# Altium integrated library TI Logic Counter.IntLib: 650 symbols (part 1 of 14)
Pins are listed as number, name and electrical type; pins without a type are passive.

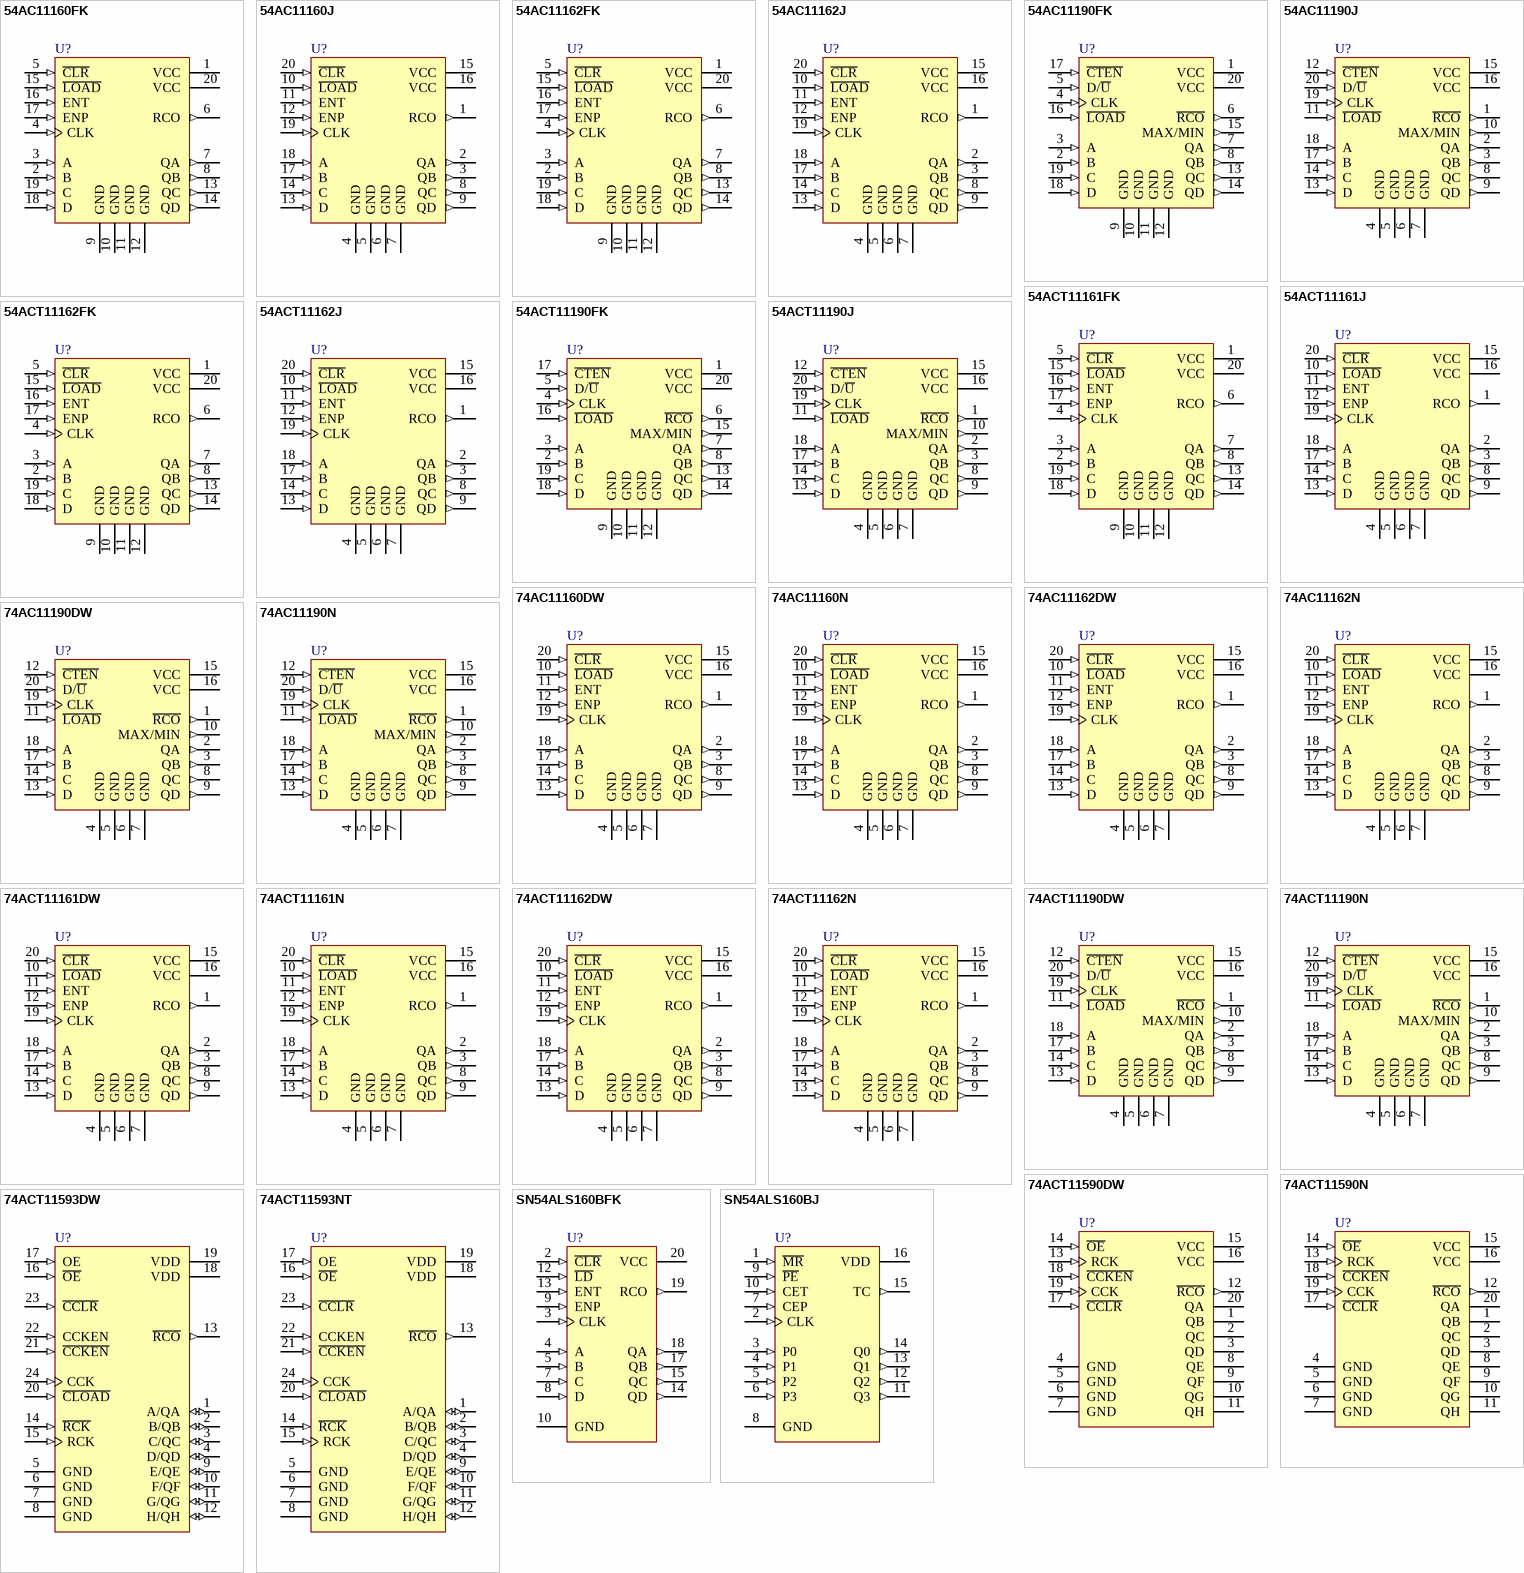
[diagram p0: symbols 54AC11160FK to SN54ALS160BJ]

## 54AC11160FK
designator U?
Synchronous 4-Bit Decade Counter; Published: 8-Jun-2000; LatestRevisionDate: 17-Jul-2002; LatestRevisionNote: Re-released for DXP Platform.; DatasheetVersion: Mar-1990; PackageVersion: 1998; PackageReference: FK020; Publisher: Altium Limited; PackageDescription: Leadless Chip Carrier; 20 Terminals; Body 8.9 x 8.9 mm; ComponentLink1Description: Manufacturer Link; ComponentLink1URL: http://www.ti.com/
footprint FK020 (Leadless Chip Carrier; 20 Terminals; Body 8.9 x 8.9 mm)
signal-integrity model 54AC11160FK
pins: 1 VCC (power), 2 B (in), 3 A (in), 4 CLK (in), 5 ~{CLR} (in), 6 RCO (out), 7 QA (out), 8 QB (out), 9 GND (power), 10 GND (power), 11 GND (power), 12 GND (power), 13 QC (out), 14 QD (out), 15 ~{LOAD} (in), 16 ENT (in), 17 ENP (in), 18 D (in), 19 C (in), 20 VCC (power)

## 54AC11160J
designator U?
Synchronous 4-Bit Decade Counter; Published: 8-Jun-2000; LatestRevisionDate: 04-Mar-2005; LatestRevisionNote: Stylized 3D Model Added.; DatasheetVersion: Mar-1990; PackageVersion: Jun-1999; PackageReference: J020D; Publisher: Altium Limited; PackageDescription: DIP; 20 Leads; Row Spacing 7.62 mm; Pitch 2.54 mm; ComponentLink1Description: Manufacturer Link; ComponentLink1URL: http://www.ti.com/
footprint J020D (DIP; 20 Leads; Row Spacing 7.62 mm; Pitch 2.54 mm)
3D model J020 (DIP; 20 Leads; Row Spacing 7.62 mm; Pitch 2.54 mm)
signal-integrity model 54AC11160J
pins: 1 RCO (out), 2 QA (out), 3 QB (out), 4 GND (power), 5 GND (power), 6 GND (power), 7 GND (power), 8 QC (out), 9 QD (out), 10 ~{LOAD} (in), 11 ENT (in), 12 ENP (in), 13 D (in), 14 C (in), 15 VCC (power), 16 VCC (power), 17 B (in), 18 A (in), 19 CLK (in), 20 ~{CLR} (in)

## 54AC11162FK
designator U?
Synchronous 4-Bit Decade Counter; Published: 8-Jun-2000; LatestRevisionDate: 17-Jul-2002; LatestRevisionNote: Re-released for DXP Platform.; DatasheetVersion: Jan-1990; PackageVersion: 1998; PackageReference: FK020; Publisher: Altium Limited; PackageDescription: Leadless Chip Carrier; 20 Terminals; Body 8.9 x 8.9 mm; ComponentLink1Description: Manufacturer Link; ComponentLink1URL: http://www.ti.com/
footprint FK020 (Leadless Chip Carrier; 20 Terminals; Body 8.9 x 8.9 mm)
signal-integrity model 54AC11162FK
pins: 1 VCC (power), 2 B (in), 3 A (in), 4 CLK (in), 5 ~{CLR} (in), 6 RCO (out), 7 QA (out), 8 QB (out), 9 GND (power), 10 GND (power), 11 GND (power), 12 GND (power), 13 QC (out), 14 QD (out), 15 ~{LOAD} (in), 16 ENT (in), 17 ENP (in), 18 D (in), 19 C (in), 20 VCC (power)

## 54AC11162J
designator U?
Synchronous 4-Bit Decade Counter; Published: 8-Jun-2000; LatestRevisionDate: 04-Mar-2005; LatestRevisionNote: Stylized 3D Model Added.; DatasheetVersion: Jan-1990; PackageVersion: Jun-1999; PackageReference: J020D; Publisher: Altium Limited; PackageDescription: DIP; 20 Leads; Row Spacing 7.62 mm; Pitch 2.54 mm; ComponentLink1Description: Manufacturer Link; ComponentLink1URL: http://www.ti.com/
footprint J020D (DIP; 20 Leads; Row Spacing 7.62 mm; Pitch 2.54 mm)
3D model J020 (DIP; 20 Leads; Row Spacing 7.62 mm; Pitch 2.54 mm)
signal-integrity model 54AC11162J
pins: 1 RCO (out), 2 QA (out), 3 QB (out), 4 GND (power), 5 GND (power), 6 GND (power), 7 GND (power), 8 QC (out), 9 QD (out), 10 ~{LOAD} (in), 11 ENT (in), 12 ENP (in), 13 D (in), 14 C (in), 15 VCC (power), 16 VCC (power), 17 B (in), 18 A (in), 19 CLK (in), 20 ~{CLR} (in)

## 54AC11190FK
designator U?
Synchronous 4-Bit Up/Down Decade Counter; Published: 8-Jun-2000; LatestRevisionDate: 17-Jul-2002; LatestRevisionNote: Re-released for DXP Platform.; DatasheetVersion: Mar-1990; PackageVersion: 1998; PackageReference: FK020; Publisher: Altium Limited; PackageDescription: Leadless Chip Carrier; 20 Terminals; Body 8.9 x 8.9 mm; ComponentLink1Description: Manufacturer Link; ComponentLink1URL: http://www.ti.com/
footprint FK020 (Leadless Chip Carrier; 20 Terminals; Body 8.9 x 8.9 mm)
signal-integrity model 54AC11190FK
pins: 1 VCC (power), 2 B (in), 3 A (in), 4 CLK (in), 5 D/~{U} (in), 6 ~{RCO} (out), 7 QA (out), 8 QB (out), 9 GND (power), 10 GND (power), 11 GND (power), 12 GND (power), 13 QC (out), 14 QD (out), 15 MAX/MIN (out), 16 ~{LOAD} (in), 17 ~{CTEN} (in), 18 D (in), 19 C (in), 20 VCC (power)

## 54AC11190J
designator U?
Synchronous 4-Bit Up/Down Decade Counter; Published: 8-Jun-2000; LatestRevisionDate: 04-Mar-2005; LatestRevisionNote: Stylized 3D Model Added.; DatasheetVersion: Mar-1990; PackageVersion: Jun-1999; PackageReference: J020D; Publisher: Altium Limited; PackageDescription: DIP; 20 Leads; Row Spacing 7.62 mm; Pitch 2.54 mm; ComponentLink1Description: Manufacturer Link; ComponentLink1URL: http://www.ti.com/
footprint J020D (DIP; 20 Leads; Row Spacing 7.62 mm; Pitch 2.54 mm)
3D model J020 (DIP; 20 Leads; Row Spacing 7.62 mm; Pitch 2.54 mm)
signal-integrity model 54AC11190J
pins: 1 ~{RCO} (out), 2 QA (out), 3 QB (out), 4 GND (power), 5 GND (power), 6 GND (power), 7 GND (power), 8 QC (out), 9 QD (out), 10 MAX/MIN (out), 11 ~{LOAD} (in), 12 ~{CTEN} (in), 13 D (in), 14 C (in), 15 VCC (power), 16 VCC (power), 17 B (in), 18 A (in), 19 CLK (in), 20 D/~{U} (in)

## 54ACT11161FK
designator U?
Synchronous 4-Bit Binary Counter; Published: 8-Jun-2000; LatestRevisionDate: 17-Jul-2002; LatestRevisionNote: Re-released for DXP Platform.; DatasheetVersion: Mar-1990; PackageVersion: 1998; PackageReference: FK020; Publisher: Altium Limited; PackageDescription: Leadless Chip Carrier; 20 Terminals; Body 8.9 x 8.9 mm; ComponentLink1Description: Manufacturer Link; ComponentLink1URL: http://www.ti.com/
footprint FK020 (Leadless Chip Carrier; 20 Terminals; Body 8.9 x 8.9 mm)
signal-integrity model 54ACT11161FK
pins: 1 VCC (power), 2 B (in), 3 A (in), 4 CLK (in), 5 ~{CLR} (in), 6 RCO (out), 7 QA (out), 8 QB (out), 9 GND (power), 10 GND (power), 11 GND (power), 12 GND (power), 13 QC (out), 14 QD (out), 15 ~{LOAD} (in), 16 ENT (in), 17 ENP (in), 18 D (in), 19 C (in), 20 VCC (power)

## 54ACT11161J
designator U?
Synchronous 4-Bit Binary Counter; Published: 8-Jun-2000; LatestRevisionDate: 04-Mar-2005; LatestRevisionNote: Stylized 3D Model Added.; DatasheetVersion: Mar-1990; PackageVersion: Jun-1999; PackageReference: J020D; Publisher: Altium Limited; PackageDescription: DIP; 20 Leads; Row Spacing 7.62 mm; Pitch 2.54 mm; ComponentLink1Description: Manufacturer Link; ComponentLink1URL: http://www.ti.com/
footprint J020D (DIP; 20 Leads; Row Spacing 7.62 mm; Pitch 2.54 mm)
3D model J020 (DIP; 20 Leads; Row Spacing 7.62 mm; Pitch 2.54 mm)
signal-integrity model 54ACT11161J
pins: 1 RCO (out), 2 QA (out), 3 QB (out), 4 GND (power), 5 GND (power), 6 GND (power), 7 GND (power), 8 QC (out), 9 QD (out), 10 ~{LOAD} (in), 11 ENT (in), 12 ENP (in), 13 D (in), 14 C (in), 15 VCC (power), 16 VCC (power), 17 B (in), 18 A (in), 19 CLK (in), 20 ~{CLR} (in)

## 54ACT11162FK
designator U?
Synchronous 4-Bit Decade Counter; Published: 8-Jun-2000; LatestRevisionDate: 17-Jul-2002; LatestRevisionNote: Re-released for DXP Platform.; DatasheetVersion: Mar-1990; PackageVersion: 1998; PackageReference: FK020; Publisher: Altium Limited; PackageDescription: Leadless Chip Carrier; 20 Terminals; Body 8.9 x 8.9 mm; ComponentLink1Description: Manufacturer Link; ComponentLink1URL: http://www.ti.com/
footprint FK020 (Leadless Chip Carrier; 20 Terminals; Body 8.9 x 8.9 mm)
signal-integrity model 54ACT11162FK
pins: 1 VCC (power), 2 B (in), 3 A (in), 4 CLK (in), 5 ~{CLR} (in), 6 RCO (out), 7 QA (out), 8 QB (out), 9 GND (power), 10 GND (power), 11 GND (power), 12 GND (power), 13 QC (out), 14 QD (out), 15 ~{LOAD} (in), 16 ENT (in), 17 ENP (in), 18 D (in), 19 C (in), 20 VCC (power)

## 54ACT11162J
designator U?
Synchronous 4-Bit Decade Counter; Published: 8-Jun-2000; LatestRevisionDate: 04-Mar-2005; LatestRevisionNote: Stylized 3D Model Added.; DatasheetVersion: Mar-1990; PackageVersion: Jun-1999; PackageReference: J020D; Publisher: Altium Limited; PackageDescription: DIP; 20 Leads; Row Spacing 7.62 mm; Pitch 2.54 mm; ComponentLink1Description: Manufacturer Link; ComponentLink1URL: http://www.ti.com/
footprint J020D (DIP; 20 Leads; Row Spacing 7.62 mm; Pitch 2.54 mm)
3D model J020 (DIP; 20 Leads; Row Spacing 7.62 mm; Pitch 2.54 mm)
signal-integrity model 54ACT11162J
pins: 1 RCO (out), 2 QA (out), 3 QB (out), 4 GND (power), 5 GND (power), 6 GND (power), 7 GND (power), 8 QC (out), 9 QD (out), 10 ~{LOAD} (in), 11 ENT (in), 12 ENP (in), 13 D (in), 14 C (in), 15 VCC (power), 16 VCC (power), 17 B (in), 18 A (in), 19 CLK (in), 20 ~{CLR} (in)

## 54ACT11190FK
designator U?
Synchronous 4-Bit Up/Down Decade Counter; Published: 8-Jun-2000; LatestRevisionDate: 17-Jul-2002; LatestRevisionNote: Re-released for DXP Platform.; DatasheetVersion: Mar-1990; PackageVersion: 1998; PackageReference: FK020; Publisher: Altium Limited; PackageDescription: Leadless Chip Carrier; 20 Terminals; Body 8.9 x 8.9 mm; ComponentLink1Description: Manufacturer Link; ComponentLink1URL: http://www.ti.com/
footprint FK020 (Leadless Chip Carrier; 20 Terminals; Body 8.9 x 8.9 mm)
signal-integrity model 54ACT11190FK
pins: 1 VCC (power), 2 B (in), 3 A (in), 4 CLK (in), 5 D/~{U} (in), 6 ~{RCO} (out), 7 QA (out), 8 QB (out), 9 GND (power), 10 GND (power), 11 GND (power), 12 GND (power), 13 QC (out), 14 QD (out), 15 MAX/MIN (out), 16 ~{LOAD} (in), 17 ~{CTEN} (in), 18 D (in), 19 C (in), 20 VCC (power)

## 54ACT11190J
designator U?
Synchronous 4-Bit Up/Down Decade Counter; Published: 8-Jun-2000; LatestRevisionDate: 04-Mar-2005; LatestRevisionNote: Stylized 3D Model Added.; DatasheetVersion: Mar-1990; PackageVersion: Jun-1999; PackageReference: J020D; Publisher: Altium Limited; PackageDescription: DIP; 20 Leads; Row Spacing 7.62 mm; Pitch 2.54 mm; ComponentLink1Description: Manufacturer Link; ComponentLink1URL: http://www.ti.com/
footprint J020D (DIP; 20 Leads; Row Spacing 7.62 mm; Pitch 2.54 mm)
3D model J020 (DIP; 20 Leads; Row Spacing 7.62 mm; Pitch 2.54 mm)
signal-integrity model 54ACT11190J
pins: 1 ~{RCO} (out), 2 QA (out), 3 QB (out), 4 GND (power), 5 GND (power), 6 GND (power), 7 GND (power), 8 QC (out), 9 QD (out), 10 MAX/MIN (out), 11 ~{LOAD} (in), 12 ~{CTEN} (in), 13 D (in), 14 C (in), 15 VCC (power), 16 VCC (power), 17 B (in), 18 A (in), 19 CLK (in), 20 D/~{U} (in)

## 74AC11160DW
designator U?
Synchronous 4-Bit Decade Counter; Published: 8-Jun-2000; LatestRevisionDate: 13-Apr-2006; LatestRevisionNote: IPC-7351 Footprint Added.; DatasheetVersion: Mar-1990; PackageVersion: Mar-2000; PackageReference: DW020; Publisher: Altium Limited; PackageDescription: 20-Pin Plastic Small Outline Integrated Circuit 1.27 mm Pitch; Code_JEDEC: MS-013; Code_IPC: SOIC127P1030-20; ComponentLink1Description: Manufacturer Link; ComponentLink1URL: http://www.ti.com/
footprint DW020_N (SOIC, 20-Leads, Body 12.8x7.5mm, Pitch 1.27mm, IPC Medium Density)
footprint DW020_L (SOIC, 20-Leads, Body 12.8x7.5mm, Pitch 1.27mm, IPC High Density)
footprint DW020_M (SOIC, 20-Leads, Body 12.8x7.5mm, Pitch 1.27mm, IPC Low Density)
3D model DW020 (20-Pin Plastic Small Outline Integrated Circuit 1.27 mm Pitch)
signal-integrity model 74AC11160DW
pins: 1 RCO (out), 2 QA (out), 3 QB (out), 4 GND (power), 5 GND (power), 6 GND (power), 7 GND (power), 8 QC (out), 9 QD (out), 10 ~{LOAD} (in), 11 ENT (in), 12 ENP (in), 13 D (in), 14 C (in), 15 VCC (power), 16 VCC (power), 17 B (in), 18 A (in), 19 CLK (in), 20 ~{CLR} (in)

## 74AC11160N
designator U?
Synchronous 4-Bit Decade Counter; ComponentAvailability: Obsolete; Published: 8-Jun-2000; LatestRevisionDate: 04-Mar-2005; LatestRevisionNote: Stylized 3D Model Added.; DatasheetVersion: Apr-1993; PackageVersion: Oct-1995; PackageReference: N020; Publisher: Altium Limited; PackageDescription: DIP; 20 Leads; Row Spacing 7.62 mm; Pitch 2.54 mm; ComponentLink1Description: Manufacturer Link; ComponentLink1URL: http://www.ti.com/; ComponentLink2Description: Datasheet; ComponentLink2URL: http://www-s.ti.com/sc/ds/74ac11160.pdf
footprint N020 (DIP; 20 Leads; Row Spacing 7.62 mm; Pitch 2.54 mm)
3D model J020 (DIP; 20 Leads; Row Spacing 7.62 mm; Pitch 2.54 mm)
signal-integrity model 74AC11160N
pins: 1 RCO (out), 2 QA (out), 3 QB (out), 4 GND (power), 5 GND (power), 6 GND (power), 7 GND (power), 8 QC (out), 9 QD (out), 10 ~{LOAD} (in), 11 ENT (in), 12 ENP (in), 13 D (in), 14 C (in), 15 VCC (power), 16 VCC (power), 17 B (in), 18 A (in), 19 CLK (in), 20 ~{CLR} (in)

## 74AC11162DW
designator U?
Synchronous 4-Bit Decade Counter; ComponentAvailability: Obsolete; Published: 8-Jun-2000; LatestRevisionDate: 13-Apr-2006; LatestRevisionNote: IPC-7351 Footprint Added.; DatasheetVersion: Jan-1990; PackageVersion: Mar-2000; PackageReference: DW020; Publisher: Altium Limited; PackageDescription: 20-Pin Plastic Small Outline Integrated Circuit 1.27 mm Pitch; Code_JEDEC: MS-013; Code_IPC: SOIC127P1030-20; ComponentLink1Description: Manufacturer Link; ComponentLink1URL: http://www.ti.com/; ComponentLink2Description: Datasheet; ComponentLink2URL: http://www-s.ti.com/sc/ds/74ac11162.pdf; ComponentLink3Description: Discontinuation Notice; ComponentLink3URL: http://focus.ti.com/docs/prod/folders/print/74ac11162.html
footprint DW020_N (SOIC, 20-Leads, Body 12.8x7.5mm, Pitch 1.27mm, IPC Medium Density)
footprint DW020_L (SOIC, 20-Leads, Body 12.8x7.5mm, Pitch 1.27mm, IPC High Density)
footprint DW020_M (SOIC, 20-Leads, Body 12.8x7.5mm, Pitch 1.27mm, IPC Low Density)
3D model DW020 (20-Pin Plastic Small Outline Integrated Circuit 1.27 mm Pitch)
signal-integrity model 74AC11162DW
pins: 1 RCO (out), 2 QA (out), 3 QB (out), 4 GND (power), 5 GND (power), 6 GND (power), 7 GND (power), 8 QC (out), 9 QD (out), 10 ~{LOAD} (in), 11 ENT (in), 12 ENP (in), 13 D (in), 14 C (in), 15 VCC (power), 16 VCC (power), 17 B (in), 18 A (in), 19 CLK (in), 20 ~{CLR} (in)

## 74AC11162N
designator U?
Synchronous 4-Bit Decade Counter; ComponentAvailability: Obsolete; Published: 8-Jun-2000; LatestRevisionDate: 04-Mar-2005; LatestRevisionNote: Stylized 3D Model Added.; DatasheetVersion: Jan-1990; PackageVersion: Oct-1995; PackageReference: N020D; Publisher: Altium Limited; PackageDescription: DIP; 20 Leads; Row Spacing 7.62 mm; Pitch 2.54 mm; ComponentLink1Description: Manufacturer Link; ComponentLink1URL: http://www.ti.com/; ComponentLink2Description: Datasheet; ComponentLink2URL: http://www-s.ti.com/sc/ds/74ac11162.pdf; ComponentLink3Description: Discontinuation Notice; ComponentLink3URL: http://focus.ti.com/docs/prod/folders/print/74ac11162.html
footprint N020D (DIP; 20 Leads; Row Spacing 7.62 mm; Pitch 2.54 mm)
3D model J020 (DIP; 20 Leads; Row Spacing 7.62 mm; Pitch 2.54 mm)
signal-integrity model 74AC11162N
pins: 1 RCO (out), 2 QA (out), 3 QB (out), 4 GND (power), 5 GND (power), 6 GND (power), 7 GND (power), 8 QC (out), 9 QD (out), 10 ~{LOAD} (in), 11 ENT (in), 12 ENP (in), 13 D (in), 14 C (in), 15 VCC (power), 16 VCC (power), 17 B (in), 18 A (in), 19 CLK (in), 20 ~{CLR} (in)

## 74AC11190DW
designator U?
Synchronous 4-Bit Up/Down Decade Counter; Published: 8-Jun-2000; LatestRevisionDate: 13-Apr-2006; LatestRevisionNote: IPC-7351 Footprint Added.; DatasheetVersion: Mar-1990; PackageVersion: Mar-2000; PackageReference: DW020; Publisher: Altium Limited; PackageDescription: 20-Pin Plastic Small Outline Integrated Circuit 1.27 mm Pitch; Code_JEDEC: MS-013; Code_IPC: SOIC127P1030-20; ComponentLink1Description: Manufacturer Link; ComponentLink1URL: http://www.ti.com/
footprint DW020_N (SOIC, 20-Leads, Body 12.8x7.5mm, Pitch 1.27mm, IPC Medium Density)
footprint DW020_L (SOIC, 20-Leads, Body 12.8x7.5mm, Pitch 1.27mm, IPC High Density)
footprint DW020_M (SOIC, 20-Leads, Body 12.8x7.5mm, Pitch 1.27mm, IPC Low Density)
3D model DW020 (20-Pin Plastic Small Outline Integrated Circuit 1.27 mm Pitch)
signal-integrity model 74AC11190DW
pins: 1 ~{RCO} (out), 2 QA (out), 3 QB (out), 4 GND (power), 5 GND (power), 6 GND (power), 7 GND (power), 8 QC (out), 9 QD (out), 10 MAX/MIN (out), 11 ~{LOAD} (in), 12 ~{CTEN} (in), 13 D (in), 14 C (in), 15 VCC (power), 16 VCC (power), 17 B (in), 18 A (in), 19 CLK (in), 20 D/~{U} (in)

## 74AC11190N
designator U?
Synchronous 4-Bit Up/Down Decade Counter; Published: 8-Jun-2000; LatestRevisionDate: 04-Mar-2005; LatestRevisionNote: Stylized 3D Model Added.; DatasheetVersion: Mar-1990; PackageVersion: Oct-1995; PackageReference: N020D; Publisher: Altium Limited; PackageDescription: DIP; 20 Leads; Row Spacing 7.62 mm; Pitch 2.54 mm; ComponentLink1Description: Manufacturer Link; ComponentLink1URL: http://www.ti.com/
footprint N020D (DIP; 20 Leads; Row Spacing 7.62 mm; Pitch 2.54 mm)
3D model J020 (DIP; 20 Leads; Row Spacing 7.62 mm; Pitch 2.54 mm)
signal-integrity model 74AC11190N
pins: 1 ~{RCO} (out), 2 QA (out), 3 QB (out), 4 GND (power), 5 GND (power), 6 GND (power), 7 GND (power), 8 QC (out), 9 QD (out), 10 MAX/MIN (out), 11 ~{LOAD} (in), 12 ~{CTEN} (in), 13 D (in), 14 C (in), 15 VCC (power), 16 VCC (power), 17 B (in), 18 A (in), 19 CLK (in), 20 D/~{U} (in)

## 74ACT11161DW
designator U?
Synchronous 4-Bit Binary Counter; Published: 8-Jun-2000; LatestRevisionDate: 13-Apr-2006; LatestRevisionNote: IPC-7351 Footprint Added.; DatasheetVersion: Mar-1990; PackageVersion: Mar-2000; PackageReference: DW020; Publisher: Altium Limited; PackageDescription: 20-Pin Plastic Small Outline Integrated Circuit 1.27 mm Pitch; Code_JEDEC: MS-013; Code_IPC: SOIC127P1030-20; ComponentLink1Description: Manufacturer Link; ComponentLink1URL: http://www.ti.com/
footprint DW020_N (SOIC, 20-Leads, Body 12.8x7.5mm, Pitch 1.27mm, IPC Medium Density)
footprint DW020_L (SOIC, 20-Leads, Body 12.8x7.5mm, Pitch 1.27mm, IPC High Density)
footprint DW020_M (SOIC, 20-Leads, Body 12.8x7.5mm, Pitch 1.27mm, IPC Low Density)
3D model DW020 (20-Pin Plastic Small Outline Integrated Circuit 1.27 mm Pitch)
signal-integrity model 74ACT11161DW
pins: 1 RCO (out), 2 QA (out), 3 QB (out), 4 GND (power), 5 GND (power), 6 GND (power), 7 GND (power), 8 QC (out), 9 QD (out), 10 ~{LOAD} (in), 11 ENT (in), 12 ENP (in), 13 D (in), 14 C (in), 15 VCC (power), 16 VCC (power), 17 B (in), 18 A (in), 19 CLK (in), 20 ~{CLR} (in)

## 74ACT11161N
designator U?
Synchronous 4-Bit Binary Counter; Published: 8-Jun-2000; LatestRevisionDate: 04-Mar-2005; LatestRevisionNote: Stylized 3D Model Added.; DatasheetVersion: Mar-1990; PackageVersion: Oct-1995; PackageReference: N020D; Publisher: Altium Limited; PackageDescription: DIP; 20 Leads; Row Spacing 7.62 mm; Pitch 2.54 mm; ComponentLink1Description: Manufacturer Link; ComponentLink1URL: http://www.ti.com/
footprint N020D (DIP; 20 Leads; Row Spacing 7.62 mm; Pitch 2.54 mm)
3D model J020 (DIP; 20 Leads; Row Spacing 7.62 mm; Pitch 2.54 mm)
signal-integrity model 74ACT11161N
pins: 1 RCO (out), 2 QA (out), 3 QB (out), 4 GND (power), 5 GND (power), 6 GND (power), 7 GND (power), 8 QC (out), 9 QD (out), 10 ~{LOAD} (in), 11 ENT (in), 12 ENP (in), 13 D (in), 14 C (in), 15 VCC (power), 16 VCC (power), 17 B (in), 18 A (in), 19 CLK (in), 20 ~{CLR} (in)

## 74ACT11162DW
designator U?
Synchronous 4-Bit Decade Counter; ComponentAvailability: Obsolete; Published: 8-Jun-2000; LatestRevisionDate: 13-Apr-2006; LatestRevisionNote: IPC-7351 Footprint Added.; DatasheetVersion: Mar-1990; PackageVersion: Mar-2000; PackageReference: DW020; Publisher: Altium Limited; PackageDescription: 20-Pin Plastic Small Outline Integrated Circuit 1.27 mm Pitch; Code_JEDEC: MS-013; Code_IPC: SOIC127P1030-20; ComponentLink1Description: Manufacturer Link; ComponentLink1URL: http://www.ti.com/; ComponentLink2Description: Discontinuation Notice; ComponentLink2URL: http://focus.ti.com/docs/prod/folders/print/74act11162.html
footprint DW020_N (SOIC, 20-Leads, Body 12.8x7.5mm, Pitch 1.27mm, IPC Medium Density)
footprint DW020_L (SOIC, 20-Leads, Body 12.8x7.5mm, Pitch 1.27mm, IPC High Density)
footprint DW020_M (SOIC, 20-Leads, Body 12.8x7.5mm, Pitch 1.27mm, IPC Low Density)
3D model DW020 (20-Pin Plastic Small Outline Integrated Circuit 1.27 mm Pitch)
signal-integrity model 74ACT11162DW
pins: 1 RCO (out), 2 QA (out), 3 QB (out), 4 GND (power), 5 GND (power), 6 GND (power), 7 GND (power), 8 QC (out), 9 QD (out), 10 ~{LOAD} (in), 11 ENT (in), 12 ENP (in), 13 D (in), 14 C (in), 15 VCC (power), 16 VCC (power), 17 B (in), 18 A (in), 19 CLK (in), 20 ~{CLR} (in)

## 74ACT11162N
designator U?
Synchronous 4-Bit Decade Counter; ComponentAvailability: Obsolete; Published: 8-Jun-2000; LatestRevisionDate: 04-Mar-2005; LatestRevisionNote: Stylized 3D Model Added.; DatasheetVersion: Mar-1990; PackageVersion: Oct-1995; PackageReference: N020D; Publisher: Altium Limited; PackageDescription: DIP; 20 Leads; Row Spacing 7.62 mm; Pitch 2.54 mm; ComponentLink1Description: Manufacturer Link; ComponentLink1URL: http://www.ti.com/; ComponentLink2Description: Discontinuation Notice; ComponentLink2URL: http://focus.ti.com/docs/prod/folders/print/74act11162.html
footprint N020D (DIP; 20 Leads; Row Spacing 7.62 mm; Pitch 2.54 mm)
3D model J020 (DIP; 20 Leads; Row Spacing 7.62 mm; Pitch 2.54 mm)
signal-integrity model 74ACT11162N
pins: 1 RCO (out), 2 QA (out), 3 QB (out), 4 GND (power), 5 GND (power), 6 GND (power), 7 GND (power), 8 QC (out), 9 QD (out), 10 ~{LOAD} (in), 11 ENT (in), 12 ENP (in), 13 D (in), 14 C (in), 15 VCC (power), 16 VCC (power), 17 B (in), 18 A (in), 19 CLK (in), 20 ~{CLR} (in)

## 74ACT11190DW
designator U?
Synchronous 4-Bit Up/Down Decade Counter; Published: 8-Jun-2000; LatestRevisionDate: 13-Apr-2006; LatestRevisionNote: IPC-7351 Footprint Added.; DatasheetVersion: Mar-1990; PackageVersion: Mar-2000; PackageReference: DW020; Publisher: Altium Limited; PackageDescription: 20-Pin Plastic Small Outline Integrated Circuit 1.27 mm Pitch; Code_JEDEC: MS-013; Code_IPC: SOIC127P1030-20; ComponentLink1Description: Manufacturer Link; ComponentLink1URL: http://www.ti.com/
footprint DW020_N (SOIC, 20-Leads, Body 12.8x7.5mm, Pitch 1.27mm, IPC Medium Density)
footprint DW020_L (SOIC, 20-Leads, Body 12.8x7.5mm, Pitch 1.27mm, IPC High Density)
footprint DW020_M (SOIC, 20-Leads, Body 12.8x7.5mm, Pitch 1.27mm, IPC Low Density)
3D model DW020 (20-Pin Plastic Small Outline Integrated Circuit 1.27 mm Pitch)
signal-integrity model 74ACT11190DW
pins: 1 ~{RCO} (out), 2 QA (out), 3 QB (out), 4 GND (power), 5 GND (power), 6 GND (power), 7 GND (power), 8 QC (out), 9 QD (out), 10 MAX/MIN (out), 11 ~{LOAD} (in), 12 ~{CTEN} (in), 13 D (in), 14 C (in), 15 VCC (power), 16 VCC (power), 17 B (in), 18 A (in), 19 CLK (in), 20 D/~{U} (in)

## 74ACT11190N
designator U?
Synchronous 4-Bit Up/Down Decade Counter; Published: 8-Jun-2000; LatestRevisionDate: 04-Mar-2005; LatestRevisionNote: Stylized 3D Model Added.; DatasheetVersion: Mar-1990; PackageVersion: Oct-1995; PackageReference: N020D; Publisher: Altium Limited; PackageDescription: DIP; 20 Leads; Row Spacing 7.62 mm; Pitch 2.54 mm; ComponentLink1Description: Manufacturer Link; ComponentLink1URL: http://www.ti.com/
footprint N020D (DIP; 20 Leads; Row Spacing 7.62 mm; Pitch 2.54 mm)
3D model J020 (DIP; 20 Leads; Row Spacing 7.62 mm; Pitch 2.54 mm)
signal-integrity model 74ACT11190N
pins: 1 ~{RCO} (out), 2 QA (out), 3 QB (out), 4 GND (power), 5 GND (power), 6 GND (power), 7 GND (power), 8 QC (out), 9 QD (out), 10 MAX/MIN (out), 11 ~{LOAD} (in), 12 ~{CTEN} (in), 13 D (in), 14 C (in), 15 VCC (power), 16 VCC (power), 17 B (in), 18 A (in), 19 CLK (in), 20 D/~{U} (in)

## 74ACT11590DW
designator U?
8-Bit Binary Counter with Registered 3-State Outputs; ComponentAvailability: Obsolete; Published: 8-Jun-2000; LatestRevisionDate: 13-Apr-2006; LatestRevisionNote: IPC-7351 Footprint Added.; DatasheetVersion: Apr-1993; PackageVersion: Mar-2000; PackageReference: DW020; Publisher: Altium Limited; PackageDescription: 20-Pin Plastic Small Outline Integrated Circuit 1.27 mm Pitch; Code_JEDEC: MS-013; Code_IPC: SOIC127P1030-20; ComponentLink1Description: Manufacturer Link; ComponentLink1URL: http://www.ti.com/; ComponentLink2Description: Datasheet; ComponentLink2URL: http://www-s.ti.com/sc/ds/74act11590.pdf
footprint DW020_N (SOIC, 20-Leads, Body 12.8x7.5mm, Pitch 1.27mm, IPC Medium Density)
footprint DW020_L (SOIC, 20-Leads, Body 12.8x7.5mm, Pitch 1.27mm, IPC High Density)
footprint DW020_M (SOIC, 20-Leads, Body 12.8x7.5mm, Pitch 1.27mm, IPC Low Density)
3D model DW020 (20-Pin Plastic Small Outline Integrated Circuit 1.27 mm Pitch)
signal-integrity model 74ACT11590DW
pins: 1 QB (hiz), 2 QC (hiz), 3 QD (hiz), 4 GND (power), 5 GND (power), 6 GND (power), 7 GND (power), 8 QE (hiz), 9 QF (hiz), 10 QG (hiz), 11 QH (hiz), 12 ~{RCO} (out), 13 RCK (in), 14 ~{OE} (in), 15 VCC (power), 16 VCC (power), 17 ~{CCLR} (in), 18 ~{CCKEN} (in), 19 CCK (in), 20 QA (hiz)

## 74ACT11590N
designator U?
8-Bit Binary Counter with Registered 3-State Outputs; ComponentAvailability: Obsolete; Published: 8-Jun-2000; LatestRevisionDate: 04-Mar-2005; LatestRevisionNote: Stylized 3D Model Added.; DatasheetVersion: Apr-1993; PackageVersion: Oct-1995; PackageReference: N020; Publisher: Altium Limited; PackageDescription: DIP; 20 Leads; Row Spacing 7.62 mm; Pitch 2.54 mm; ComponentLink1Description: Manufacturer Link; ComponentLink1URL: http://www.ti.com/; ComponentLink2Description: Datasheet; ComponentLink2URL: http://www-s.ti.com/sc/ds/74act11590.pdf
footprint N020 (DIP; 20 Leads; Row Spacing 7.62 mm; Pitch 2.54 mm)
3D model J020 (DIP; 20 Leads; Row Spacing 7.62 mm; Pitch 2.54 mm)
signal-integrity model 74ACT11590N
pins: 1 QB (hiz), 2 QC (hiz), 3 QD (hiz), 4 GND (power), 5 GND (power), 6 GND (power), 7 GND (power), 8 QE (hiz), 9 QF (hiz), 10 QG (hiz), 11 QH (hiz), 12 ~{RCO} (out), 13 RCK (in), 14 ~{OE} (in), 15 VCC (power), 16 VCC (power), 17 ~{CCLR} (in), 18 ~{CCKEN} (in), 19 CCK (in), 20 QA (hiz)

## 74ACT11593DW
designator U?
8-Bit Binary Counter with Parallel-Input Registers and 3-State Outputs; ComponentAvailability: Obsolete; Published: 8-Jun-2000; LatestRevisionDate: 13-Apr-2006; LatestRevisionNote: IPC-7351 Footprint Added.; DatasheetVersion: Apr-1993; PackageVersion: Mar-2000; PackageReference: DW024; Publisher: Altium Limited; PackageDescription: 24-Pin Plastic Small Outline Integrated Circuit 1.27 mm Pitch; Code_JEDEC: MS-013; ComponentLink1Description: Manufacturer Link; ComponentLink1URL: http://www.ti.com/; ComponentLink2Description: Datasheet; ComponentLink2URL: http://www-s.ti.com/sc/ds/74act11593.pdf
footprint DW024_N (SOIC, 24-Leads, Body 15.4x7.5mm, Pitch 1.27mm, IPC Medium Density)
footprint DW024_L (SOIC, 24-Leads, Body 15.4x7.5mm, Pitch 1.27mm, IPC High Density)
footprint DW024_M (SOIC, 24-Leads, Body 15.4x7.5mm, Pitch 1.27mm, IPC Low Density)
3D model DW024 (24-Pin Plastic Small Outline Integrated Circuit 1.27 mm Pitch)
signal-integrity model 74ACT11593DW
pins: 1 A/QA (io), 2 B/QB (io), 3 C/QC (io), 4 D/QD (io), 5 GND (power), 6 GND (power), 7 GND (power), 8 GND (power), 9 E/QE (io), 10 F/QF (io), 11 G/QG (io), 12 H/QH (io), 13 ~{RCO} (out), 14 ~{RCK} (in), 15 RCK (in), 16 ~{OE} (in), 17 OE (in), 18 VDD (power), 19 VDD (power), 20 ~{CLOAD} (in), 21 ~{CCKEN} (in), 22 CCKEN (in), 23 ~{CCLR} (in), 24 CCK (in)

## 74ACT11593NT
designator U?
8-Bit Binary Counter with Parallel-Input Registers and 3-State Outputs; ComponentAvailability: Obsolete; Published: 8-Jun-2000; LatestRevisionDate: 04-Mar-2005; LatestRevisionNote: Stylized 3D Model Added.; DatasheetVersion: Apr-1993; PackageVersion: Oct-1994; PackageReference: NT024; Publisher: Altium Limited; PackageDescription: DIP; 24 Leads; Row Spacing 7.62 mm; Pitch 2.54 mm; Code_JEDEC: MS-001-AF; ComponentLink1Description: Manufacturer Link; ComponentLink1URL: http://www.ti.com/; ComponentLink2Description: Datasheet; ComponentLink2URL: http://www-s.ti.com/sc/ds/74act11593.pdf
footprint NT024 (DIP; 24 Leads; Row Spacing 7.62 mm; Pitch 2.54 mm)
3D model JT024 (DIP; 24 Leads; Row Spacing 7.62 mm; Pitch 2.54 mm)
signal-integrity model 74ACT11593NT
pins: 1 A/QA (io), 2 B/QB (io), 3 C/QC (io), 4 D/QD (io), 5 GND (power), 6 GND (power), 7 GND (power), 8 GND (power), 9 E/QE (io), 10 F/QF (io), 11 G/QG (io), 12 H/QH (io), 13 ~{RCO} (out), 14 ~{RCK} (in), 15 RCK (in), 16 ~{OE} (in), 17 OE (in), 18 VDD (power), 19 VDD (power), 20 ~{CLOAD} (in), 21 ~{CCKEN} (in), 22 CCKEN (in), 23 ~{CCLR} (in), 24 CCK (in)

## SN54ALS160BFK
designator U?
Synchronous 4-Bit Decade and Binary Counter; Note: Pins 1, 6, 11 and 16 - no connection and not drawn.; Published: 8-Jun-2000; LatestRevisionDate: 17-Jul-2002; LatestRevisionNote: Re-released for DXP Platform.; DatasheetVersion: May-1986; PackageVersion: 1998; PackageReference: FK020; Publisher: Altium Limited; PackageDescription: Leadless Chip Carrier; 20 Terminals; Body 8.9 x 8.9 mm; ComponentLink1Description: Manufacturer Link; ComponentLink1URL: http://www.ti.com/; ComponentLink2Description: Datasheet; ComponentLink2URL: http://www-s.ti.com/sc/ds/sn74als162b.pdf
footprint FK020 (Leadless Chip Carrier; 20 Terminals; Body 8.9 x 8.9 mm)
signal-integrity model SN54ALS160BFK
pins: 2 ~{CLR} (in), 3 CLK (in), 4 A (in), 5 B (in), 7 C (in), 8 D (in), 9 ENP (in), 10 GND (power), 12 ~{LD} (in), 13 ENT (in), 14 QD (out), 15 QC (out), 17 QB (out), 18 QA (out), 19 RCO (out), 20 VCC (power)

## SN54ALS160BJ
designator U?
Synchronous 4-Bit Decade and Binary Counter; Published: 8-Jun-2000; LatestRevisionDate: 04-Mar-2005; LatestRevisionNote: Stylized 3D Model Added.; DatasheetVersion: May-1986; PackageVersion: Jun-1999; PackageReference: J016; Publisher: Altium Limited; PackageDescription: DIP; 16 Leads; Row Spacing 7.62 mm; Pitch 2.54 mm; ComponentLink1Description: Manufacturer Link; ComponentLink1URL: http://www.ti.com/; ComponentLink2Description: Datasheet; ComponentLink2URL: http://www-s.ti.com/sc/ds/sn74als162b.pdf
footprint J016 (DIP; 16 Leads; Row Spacing 7.62 mm; Pitch 2.54 mm)
3D model J016 (DIP; 16 Leads; Row Spacing 7.62 mm; Pitch 2.54 mm)
signal-integrity model SN54ALS160BJ
pins: 1 ~{MR} (in), 2 CLK (in), 3 P0 (in), 4 P1 (in), 5 P2 (in), 6 P3 (in), 7 CEP (in), 8 GND (power), 9 ~{PE} (in), 10 CET (in), 11 Q3 (out), 12 Q2 (out), 13 Q1 (out), 14 Q0 (out), 15 TC (out), 16 VDD (power)

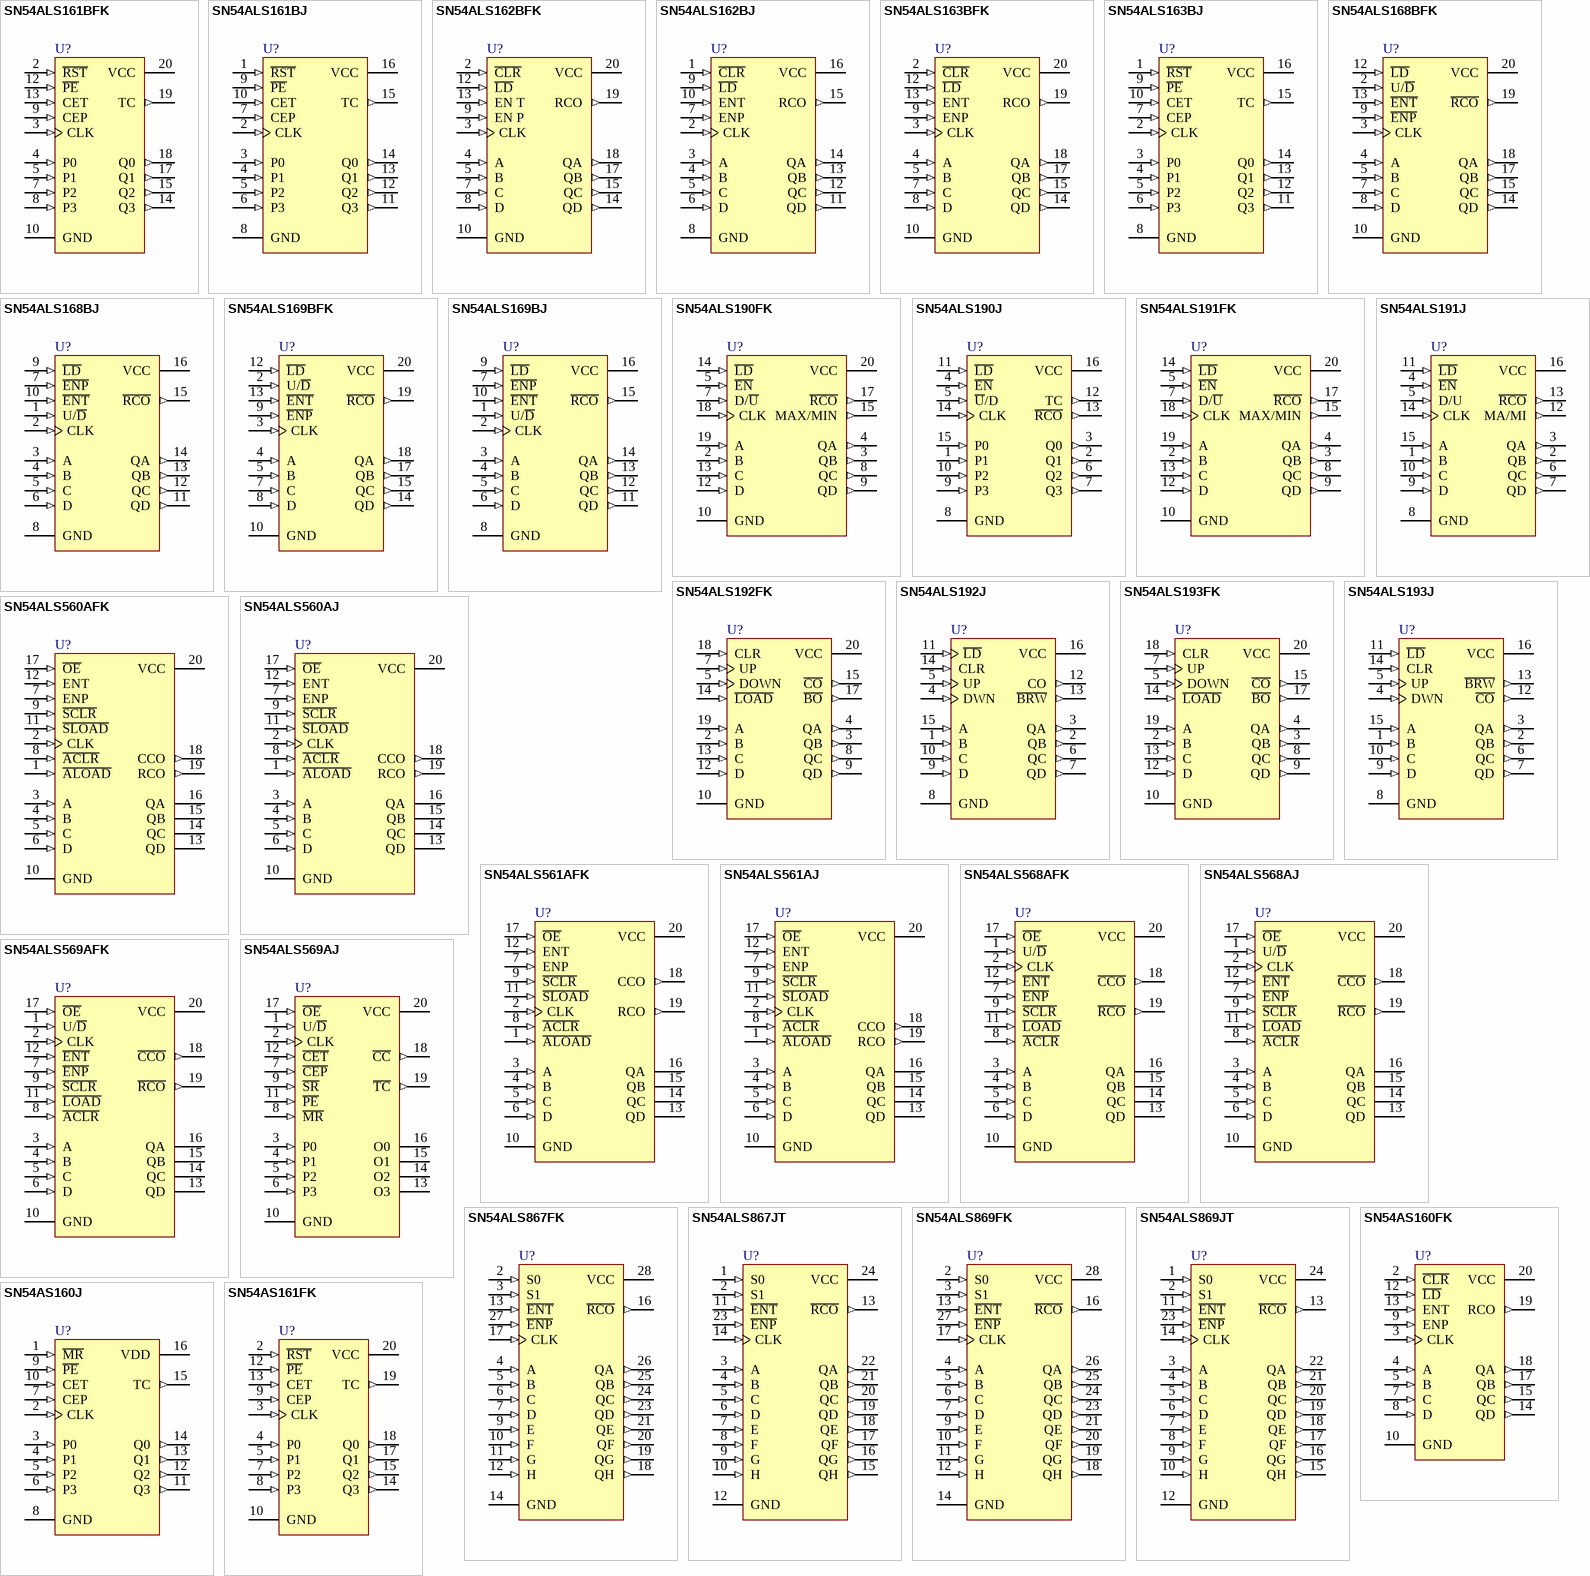
[diagram p1: symbols SN54ALS161BFK to SN54AS161FK]

## SN54ALS161BFK
designator U?
Synchronous 4-Bit Decade and Binary Counter; Note: Pins 1, 6, 11 and 16 - no connection and not drawn.; Published: 8-Jun-2000; LatestRevisionDate: 17-Jul-2002; LatestRevisionNote: Re-released for DXP Platform.; DatasheetVersion: May-1986; PackageVersion: 1998; PackageReference: FK020; Publisher: Altium Limited; PackageDescription: Leadless Chip Carrier; 20 Terminals; Body 8.9 x 8.9 mm; ComponentLink1Description: Manufacturer Link; ComponentLink1URL: http://www.ti.com/; ComponentLink2Description: Datasheet; ComponentLink2URL: http://www-s.ti.com/sc/ds/sn54als161b.pdf
footprint FK020 (Leadless Chip Carrier; 20 Terminals; Body 8.9 x 8.9 mm)
signal-integrity model SN54ALS161BFK
pins: 2 ~{RST} (in), 3 CLK (in), 4 P0 (in), 5 P1 (in), 7 P2 (in), 8 P3 (in), 9 CEP (in), 10 GND (power), 12 ~{PE} (in), 13 CET (in), 14 Q3 (out), 15 Q2 (out), 17 Q1 (out), 18 Q0 (out), 19 TC (out), 20 VCC (power)

## SN54ALS161BJ
designator U?
Synchronous 4-Bit Decade and Binary Counter; Published: 8-Jun-2000; LatestRevisionDate: 04-Mar-2005; LatestRevisionNote: Stylized 3D Model Added.; DatasheetVersion: Dec-1994; PackageVersion: Jun-1999; PackageReference: J016; Publisher: Altium Limited; PackageDescription: DIP; 16 Leads; Row Spacing 7.62 mm; Pitch 2.54 mm; ComponentLink1Description: Manufacturer Link; ComponentLink1URL: http://www.ti.com/; ComponentLink2Description: Datasheet; ComponentLink2URL: http://www-s.ti.com/sc/ds/sn54als161b.pdf
footprint J016 (DIP; 16 Leads; Row Spacing 7.62 mm; Pitch 2.54 mm)
3D model J016 (DIP; 16 Leads; Row Spacing 7.62 mm; Pitch 2.54 mm)
signal-integrity model SN54ALS161BJ
pins: 1 ~{RST} (in), 2 CLK (in), 3 P0 (in), 4 P1 (in), 5 P2 (in), 6 P3 (in), 7 CEP (in), 8 GND (power), 9 ~{PE} (in), 10 CET (in), 11 Q3 (out), 12 Q2 (out), 13 Q1 (out), 14 Q0 (out), 15 TC (out), 16 VCC (power)

## SN54ALS162BFK
designator U?
Synchronous 4-Bit Decade and Binary Counter; Note: Pins 1, 6, 11 and 16 - no connection and not drawn.; Published: 8-Jun-2000; LatestRevisionDate: 17-Jul-2002; LatestRevisionNote: Re-released for DXP Platform.; DatasheetVersion: Dec-1994; PackageVersion: 1998; PackageReference: FK020; Publisher: Altium Limited; PackageDescription: Leadless Chip Carrier; 20 Terminals; Body 8.9 x 8.9 mm; ComponentLink1Description: Manufacturer Link; ComponentLink1URL: http://www.ti.com/; ComponentLink2Description: Datasheet; ComponentLink2URL: http://www-s.ti.com/sc/ds/sn54als161b.pdf
footprint FK020 (Leadless Chip Carrier; 20 Terminals; Body 8.9 x 8.9 mm)
signal-integrity model SN54ALS162BFK
pins: 2 ~{CLR} (in), 3 CLK (in), 4 A (in), 5 B (in), 7 C (in), 8 D (in), 9 EN P (in), 10 GND (power), 12 ~{LD} (in), 13 EN T (in), 14 QD (out), 15 QC (out), 17 QB (out), 18 QA (out), 19 RCO (out), 20 VCC (power)

## SN54ALS162BJ
designator U?
Synchronous 4-Bit Decade and Binary Counter; Published: 8-Jun-2000; LatestRevisionDate: 04-Mar-2005; LatestRevisionNote: Stylized 3D Model Added.; DatasheetVersion: Dec-1994; PackageVersion: Jun-1999; PackageReference: J016; Publisher: Altium Limited; PackageDescription: DIP; 16 Leads; Row Spacing 7.62 mm; Pitch 2.54 mm; ComponentLink1Description: Manufacturer Link; ComponentLink1URL: http://www.ti.com/; ComponentLink2Description: Datasheet; ComponentLink2URL: http://www-s.ti.com/sc/ds/sn54als161b.pdf
footprint J016 (DIP; 16 Leads; Row Spacing 7.62 mm; Pitch 2.54 mm)
3D model J016 (DIP; 16 Leads; Row Spacing 7.62 mm; Pitch 2.54 mm)
signal-integrity model SN54ALS162BJ
pins: 1 ~{CLR} (in), 2 CLK (in), 3 A (in), 4 B (in), 5 C (in), 6 D (in), 7 ENP (in), 8 GND (power), 9 ~{LD} (in), 10 ENT (in), 11 QD (out), 12 QC (out), 13 QB (out), 14 QA (out), 15 RCO (out), 16 VCC (power)

## SN54ALS163BFK
designator U?
Synchronous 4-Bit Decade and Binary Counter; Note: Pins 1, 6, 11 and 16 - no connection and not drawn.; Published: 8-Jun-2000; LatestRevisionDate: 17-Jul-2002; LatestRevisionNote: Re-released for DXP Platform.; DatasheetVersion: May-1986; PackageVersion: 1998; PackageReference: FK020; Publisher: Altium Limited; PackageDescription: Leadless Chip Carrier; 20 Terminals; Body 8.9 x 8.9 mm; ComponentLink1Description: Manufacturer Link; ComponentLink1URL: http://www.ti.com/; ComponentLink2Description: Datasheet; ComponentLink2URL: http://www-s.ti.com/sc/ds/sn54als161b.pdf
footprint FK020 (Leadless Chip Carrier; 20 Terminals; Body 8.9 x 8.9 mm)
signal-integrity model SN54ALS163BFK
pins: 2 ~{CLR} (in), 3 CLK (in), 4 A (in), 5 B (in), 7 C (in), 8 D (in), 9 ENP (in), 10 GND (power), 12 ~{LD} (in), 13 ENT (in), 14 QD (out), 15 QC (out), 17 QB (out), 18 QA (out), 19 RCO (out), 20 VCC (power)

## SN54ALS163BJ
designator U?
Synchronous 4-Bit Decade and Binary Counter; Published: 8-Jun-2000; LatestRevisionDate: 04-Mar-2005; LatestRevisionNote: Stylized 3D Model Added.; DatasheetVersion: Dec-1994; PackageVersion: Jun-1999; PackageReference: J016; Publisher: Altium Limited; PackageDescription: DIP; 16 Leads; Row Spacing 7.62 mm; Pitch 2.54 mm; ComponentLink1Description: Manufacturer Link; ComponentLink1URL: http://www.ti.com/; ComponentLink2Description: Datasheet; ComponentLink2URL: http://www-s.ti.com/sc/ds/sn54als161b.pdf
footprint J016 (DIP; 16 Leads; Row Spacing 7.62 mm; Pitch 2.54 mm)
3D model J016 (DIP; 16 Leads; Row Spacing 7.62 mm; Pitch 2.54 mm)
signal-integrity model SN54ALS163BJ
pins: 1 ~{RST} (in), 2 CLK (in), 3 P0 (in), 4 P1 (in), 5 P2 (in), 6 P3 (in), 7 CEP (in), 8 GND (power), 9 ~{PE} (in), 10 CET (in), 11 Q3 (out), 12 Q2 (out), 13 Q1 (out), 14 Q0 (out), 15 TC (out), 16 VCC (power)

## SN54ALS168BFK
designator U?
Synchronous 4-Bit Up/Down Decade and Binary Counter; Note: Pins 1, 6, 11 and 16 - no connection and not drawn.; Published: 8-Jun-2000; LatestRevisionDate: 17-Jul-2002; LatestRevisionNote: Re-released for DXP Platform.; DatasheetVersion: May-1986; PackageVersion: 1998; PackageReference: FK020; Publisher: Altium Limited; PackageDescription: Leadless Chip Carrier; 20 Terminals; Body 8.9 x 8.9 mm; ComponentLink1Description: Manufacturer Link; ComponentLink1URL: http://www.ti.com/
footprint FK020 (Leadless Chip Carrier; 20 Terminals; Body 8.9 x 8.9 mm)
signal-integrity model SN54ALS168BFK
pins: 2 U/~{D} (in), 3 CLK (in), 4 A (in), 5 B (in), 7 C (in), 8 D (in), 9 ~{ENP} (in), 10 GND (power), 12 ~{LD} (in), 13 ~{ENT} (in), 14 QD (out), 15 QC (out), 17 QB (out), 18 QA (out), 19 ~{RCO} (out), 20 VCC (power)

## SN54ALS168BJ
designator U?
Synchronous 4-Bit Up/Down Decade and Binary Counter; Published: 8-Jun-2000; LatestRevisionDate: 04-Mar-2005; LatestRevisionNote: Stylized 3D Model Added.; DatasheetVersion: May-1986; PackageVersion: Jun-1999; PackageReference: J016D; Publisher: Altium Limited; PackageDescription: DIP; 16 Leads; Row Spacing 7.62 mm; Pitch 2.54 mm; ComponentLink1Description: Manufacturer Link; ComponentLink1URL: http://www.ti.com/
footprint J016D (DIP; 16 Leads; Row Spacing 7.62 mm; Pitch 2.54 mm)
3D model J016 (DIP; 16 Leads; Row Spacing 7.62 mm; Pitch 2.54 mm)
signal-integrity model SN54ALS168BJ
pins: 1 U/~{D} (in), 2 CLK (in), 3 A (in), 4 B (in), 5 C (in), 6 D (in), 7 ~{ENP} (in), 8 GND (power), 9 ~{LD} (in), 10 ~{ENT} (in), 11 QD (out), 12 QC (out), 13 QB (out), 14 QA (out), 15 ~{RCO} (out), 16 VCC (power)

## SN54ALS169BFK
designator U?
Synchronous 4-Bit Up/Down Binary Counter; Note: Pins 1, 6, 11 and 16 - no connection and not drawn.; Published: 8-Jun-2000; LatestRevisionDate: 17-Jul-2002; LatestRevisionNote: Re-released for DXP Platform.; DatasheetVersion: Dec-1994; PackageVersion: 1998; PackageReference: FK020; Publisher: Altium Limited; PackageDescription: Leadless Chip Carrier; 20 Terminals; Body 8.9 x 8.9 mm; ComponentLink1Description: Manufacturer Link; ComponentLink1URL: http://www.ti.com/; ComponentLink2Description: Datasheet; ComponentLink2URL: http://www-s.ti.com/sc/ds/sn74als169b.pdf
footprint FK020 (Leadless Chip Carrier; 20 Terminals; Body 8.9 x 8.9 mm)
signal-integrity model SN54ALS169BFK
pins: 2 U/~{D} (in), 3 CLK (in), 4 A (in), 5 B (in), 7 C (in), 8 D (in), 9 ~{ENP} (in), 10 GND (power), 12 ~{LD} (in), 13 ~{ENT} (in), 14 QD (out), 15 QC (out), 17 QB (out), 18 QA (out), 19 ~{RCO} (out), 20 VCC (power)

## SN54ALS169BJ
designator U?
Synchronous 4-Bit Up/Down Binary Counter; Published: 8-Jun-2000; LatestRevisionDate: 04-Mar-2005; LatestRevisionNote: Stylized 3D Model Added.; DatasheetVersion: Dec-1994; PackageVersion: Jun-1999; PackageReference: J016; Publisher: Altium Limited; PackageDescription: DIP; 16 Leads; Row Spacing 7.62 mm; Pitch 2.54 mm; ComponentLink1Description: Manufacturer Link; ComponentLink1URL: http://www.ti.com/; ComponentLink2Description: Datasheet; ComponentLink2URL: http://www-s.ti.com/sc/ds/sn74als169b.pdf
footprint J016 (DIP; 16 Leads; Row Spacing 7.62 mm; Pitch 2.54 mm)
3D model J016 (DIP; 16 Leads; Row Spacing 7.62 mm; Pitch 2.54 mm)
signal-integrity model SN54ALS169BJ
pins: 1 U/~{D} (in), 2 CLK (in), 3 A (in), 4 B (in), 5 C (in), 6 D (in), 7 ~{ENP} (in), 8 GND (power), 9 ~{LD} (in), 10 ~{ENT} (in), 11 QD (out), 12 QC (out), 13 QB (out), 14 QA (out), 15 ~{RCO} (out), 16 VCC (power)

## SN54ALS190FK
designator U?
Synchronous 4-Bit Up/Down Decade and Binary Counter; Note: Pins 1, 6, 11 and 16 - no connection and not drawn.; Published: 8-Jun-2000; LatestRevisionDate: 17-Jul-2002; LatestRevisionNote: Re-released for DXP Platform.; DatasheetVersion: May-1986; PackageVersion: 1998; PackageReference: FK020; Publisher: Altium Limited; PackageDescription: Leadless Chip Carrier; 20 Terminals; Body 8.9 x 8.9 mm; ComponentLink1Description: Manufacturer Link; ComponentLink1URL: http://www.ti.com/
footprint FK020 (Leadless Chip Carrier; 20 Terminals; Body 8.9 x 8.9 mm)
signal-integrity model SN54ALS190FK
pins: 2 B (in), 3 QB (out), 4 QA (out), 5 ~{EN} (in), 7 D/~{U} (in), 8 QC (out), 9 QD (out), 10 GND (power), 12 D (in), 13 C (in), 14 ~{LD} (in), 15 MAX/MIN (out), 17 ~{RCO} (out), 18 CLK (in), 19 A (in), 20 VCC (power)

## SN54ALS190J
designator U?
Synchronous 4-Bit Up/Down Decade and Binary Counter; Published: 8-Jun-2000; LatestRevisionDate: 04-Mar-2005; LatestRevisionNote: Stylized 3D Model Added.; DatasheetVersion: May-1986; PackageVersion: Jun-1999; PackageReference: J016; Publisher: Altium Limited; PackageDescription: DIP; 16 Leads; Row Spacing 7.62 mm; Pitch 2.54 mm; ComponentLink1Description: Manufacturer Link; ComponentLink1URL: http://www.ti.com/
footprint J016 (DIP; 16 Leads; Row Spacing 7.62 mm; Pitch 2.54 mm)
3D model J016 (DIP; 16 Leads; Row Spacing 7.62 mm; Pitch 2.54 mm)
signal-integrity model SN54ALS190J
pins: 1 P1 (in), 2 Q1 (out), 3 Q0 (out), 4 ~{EN} (in), 5 ~{U}/D (in), 6 Q2 (out), 7 Q3 (out), 8 GND (power), 9 P3 (in), 10 P2 (in), 11 ~{LD} (in), 12 TC (out), 13 ~{RCO} (out), 14 CLK (in), 15 P0 (in), 16 VCC (power)

## SN54ALS191FK
designator U?
Synchronous 4-Bit Up/Down Binary Counter; Note: Pins 1, 6, 11 and 16 - no connection and not drawn.; Published: 8-Jun-2000; LatestRevisionDate: 17-Jul-2002; LatestRevisionNote: Re-released for DXP Platform.; DatasheetVersion: Dec-1994; PackageVersion: 1998; PackageReference: FK020; Publisher: Altium Limited; PackageDescription: Leadless Chip Carrier; 20 Terminals; Body 8.9 x 8.9 mm; ComponentLink1Description: Manufacturer Link; ComponentLink1URL: http://www.ti.com/
footprint FK020 (Leadless Chip Carrier; 20 Terminals; Body 8.9 x 8.9 mm)
signal-integrity model SN54ALS191FK
pins: 2 B (in), 3 QB (out), 4 QA (out), 5 ~{EN} (in), 7 D/~{U} (in), 8 QC (out), 9 QD (out), 10 GND (power), 12 D (in), 13 C (in), 14 ~{LD} (in), 15 MAX/MIN (out), 17 ~{RCO} (out), 18 CLK (in), 19 A (in), 20 VCC (power)

## SN54ALS191J
designator U?
Synchronous 4-Bit Up/Down Binary Counter; ComponentAvailability: Obsolete; Published: 8-Jun-2000; LatestRevisionDate: 04-Mar-2005; LatestRevisionNote: Stylized 3D Model Added.; DatasheetVersion: Dec-1994; PackageVersion: Jun-1999; PackageReference: J016; Publisher: Altium Limited; PackageDescription: DIP; 16 Leads; Row Spacing 7.62 mm; Pitch 2.54 mm; ComponentLink1Description: Manufacturer Link; ComponentLink1URL: http://www.ti.com/; ComponentLink2Description: Discontinuation Notice; ComponentLink2URL: http://focus.ti.com/docs/prod/folders/print/sn54als191.html
footprint J016 (DIP; 16 Leads; Row Spacing 7.62 mm; Pitch 2.54 mm)
3D model J016 (DIP; 16 Leads; Row Spacing 7.62 mm; Pitch 2.54 mm)
signal-integrity model SN54ALS191J
pins: 1 B (in), 2 QB (out), 3 QA (out), 4 ~{EN} (in), 5 D/U (in), 6 QC (out), 7 QD (out), 8 GND (power), 9 D (in), 10 C (in), 11 ~{LD} (in), 12 MA/MI (out), 13 ~{RCO} (out), 14 CLK (in), 15 A (in), 16 VCC (power)

## SN54ALS192FK
designator U?
Synchronous 4-Bit Up/Down Counter (Dual Clock with Clear); Note: Pins 1, 6, 11 and 16 - no connection and not drawn.; Published: 8-Jun-2000; LatestRevisionDate: 17-Jul-2002; LatestRevisionNote: Re-released for DXP Platform.; DatasheetVersion: May-1986; PackageVersion: 1998; PackageReference: FK020; Publisher: Altium Limited; PackageDescription: Leadless Chip Carrier; 20 Terminals; Body 8.9 x 8.9 mm; ComponentLink1Description: Manufacturer Link; ComponentLink1URL: http://www.ti.com/
footprint FK020 (Leadless Chip Carrier; 20 Terminals; Body 8.9 x 8.9 mm)
signal-integrity model SN54ALS192FK
pins: 2 B (in), 3 QB (out), 4 QA (out), 5 DOWN (in), 7 UP (in), 8 QC (out), 9 QD (out), 10 GND (power), 12 D (in), 13 C (in), 14 ~{LOAD} (in), 15 ~{CO} (out), 17 ~{BO} (out), 18 CLR (in), 19 A (in), 20 VCC (power)

## SN54ALS192J
designator U?
Synchronous 4-Bit Up/Down Counter (Dual Clock with Clear); Published: 8-Jun-2000; LatestRevisionDate: 04-Mar-2005; LatestRevisionNote: Stylized 3D Model Added.; DatasheetVersion: May-1986; PackageVersion: Jun-1999; PackageReference: J016D; Publisher: Altium Limited; PackageDescription: DIP; 16 Leads; Row Spacing 7.62 mm; Pitch 2.54 mm; ComponentLink1Description: Manufacturer Link; ComponentLink1URL: http://www.ti.com/
footprint J016D (DIP; 16 Leads; Row Spacing 7.62 mm; Pitch 2.54 mm)
3D model J016 (DIP; 16 Leads; Row Spacing 7.62 mm; Pitch 2.54 mm)
signal-integrity model SN54ALS192J
pins: 1 B (in), 2 QB (out), 3 QA (out), 4 DWN (in), 5 UP (in), 6 QC (out), 7 QD (out), 8 GND (power), 9 D (in), 10 C (in), 11 ~{LD} (in), 12 CO (out), 13 ~{BRW} (out), 14 CLR (in), 15 A (in), 16 VCC (power)

## SN54ALS193FK
designator U?
Synchronous 4-Bit Up/Down Binary Counter with Dual Clock and Clear; Note: Pins 1, 6, 11 and 16 - no connection and not drawn.; Published: 8-Jun-2000; LatestRevisionDate: 17-Jul-2002; LatestRevisionNote: Re-released for DXP Platform.; DatasheetVersion: Dec-1994; PackageVersion: 1998; PackageReference: FK020; Publisher: Altium Limited; PackageDescription: Leadless Chip Carrier; 20 Terminals; Body 8.9 x 8.9 mm; ComponentLink1Description: Manufacturer Link; ComponentLink1URL: http://www.ti.com/
footprint FK020 (Leadless Chip Carrier; 20 Terminals; Body 8.9 x 8.9 mm)
signal-integrity model SN54ALS193FK
pins: 2 B (in), 3 QB (out), 4 QA (out), 5 DOWN (in), 7 UP (in), 8 QC (out), 9 QD (out), 10 GND (power), 12 D (in), 13 C (in), 14 ~{LOAD} (in), 15 ~{CO} (out), 17 ~{BO} (out), 18 CLR (in), 19 A (in), 20 VCC (power)

## SN54ALS193J
designator U?
Synchronous 4-Bit Up/Down Binary Counter with Dual Clock and Clear; ComponentAvailability: Obsolete; Published: 8-Jun-2000; LatestRevisionDate: 04-Mar-2005; LatestRevisionNote: Stylized 3D Model Added.; DatasheetVersion: Dec-1994; PackageVersion: Jun-1999; PackageReference: J016; Publisher: Altium Limited; PackageDescription: DIP; 16 Leads; Row Spacing 7.62 mm; Pitch 2.54 mm; ComponentLink1Description: Manufacturer Link; ComponentLink1URL: http://www.ti.com/; ComponentLink2Description: Discontinuation Notice; ComponentLink2URL: http://focus.ti.com/docs/prod/folders/print/sn54als193.html
footprint J016 (DIP; 16 Leads; Row Spacing 7.62 mm; Pitch 2.54 mm)
3D model J016 (DIP; 16 Leads; Row Spacing 7.62 mm; Pitch 2.54 mm)
signal-integrity model SN54ALS193J
pins: 1 B (in), 2 QB (out), 3 QA (out), 4 DWN (in), 5 UP (in), 6 QC (out), 7 QD (out), 8 GND (power), 9 D (in), 10 C (in), 11 ~{LD} (in), 12 ~{CO} (out), 13 ~{BRW} (out), 14 CLR (in), 15 A (in), 16 VCC (power)

## SN54ALS560AFK
designator U?
Synchronous 4-Bit Counter with 3-State Outputs; Published: 8-Jun-2000; LatestRevisionDate: 17-Jul-2002; LatestRevisionNote: Re-released for DXP Platform.; DatasheetVersion: May-1986; PackageVersion: 1998; PackageReference: FK020; Publisher: Altium Limited; PackageDescription: Leadless Chip Carrier; 20 Terminals; Body 8.9 x 8.9 mm; ComponentLink1Description: Manufacturer Link; ComponentLink1URL: http://www.ti.com/
footprint FK020 (Leadless Chip Carrier; 20 Terminals; Body 8.9 x 8.9 mm)
signal-integrity model SN54ALS560AFK
pins: 1 ~{ALOAD} (in), 2 CLK (in), 3 A (in), 4 B (in), 5 C (in), 6 D (in), 7 ENP (in), 8 ~{ACLR} (in), 9 ~{SCLR} (in), 10 GND (power), 11 ~{SLOAD} (in), 12 ENT (in), 13 QD (hiz), 14 QC (hiz), 15 QB (hiz), 16 QA (hiz), 17 ~{OE} (in), 18 CCO (out), 19 RCO (out), 20 VCC (power)

## SN54ALS560AJ
designator U?
Synchronous 4-Bit Counter with 3-State Outputs; Published: 8-Jun-2000; LatestRevisionDate: 04-Mar-2005; LatestRevisionNote: Stylized 3D Model Added.; DatasheetVersion: May-1986; PackageVersion: Jun-1999; PackageReference: J020D; Publisher: Altium Limited; PackageDescription: DIP; 20 Leads; Row Spacing 7.62 mm; Pitch 2.54 mm; ComponentLink1Description: Manufacturer Link; ComponentLink1URL: http://www.ti.com/
footprint J020D (DIP; 20 Leads; Row Spacing 7.62 mm; Pitch 2.54 mm)
3D model J020 (DIP; 20 Leads; Row Spacing 7.62 mm; Pitch 2.54 mm)
signal-integrity model SN54ALS560AJ
pins: 1 ~{ALOAD} (in), 2 CLK (in), 3 A (in), 4 B (in), 5 C (in), 6 D (in), 7 ENP (in), 8 ~{ACLR} (in), 9 ~{SCLR} (in), 10 GND (power), 11 ~{SLOAD} (in), 12 ENT (in), 13 QD (hiz), 14 QC (hiz), 15 QB (hiz), 16 QA (hiz), 17 ~{OE} (in), 18 CCO (out), 19 RCO (out), 20 VCC (power)

## SN54ALS561AFK
designator U?
Synchronous 4-Bit Counter with 3-State Outputs; Published: 8-Jun-2000; LatestRevisionDate: 17-Jul-2002; LatestRevisionNote: Re-released for DXP Platform.; DatasheetVersion: Jan-1995; PackageVersion: 1998; PackageReference: FK020; Publisher: Altium Limited; PackageDescription: Leadless Chip Carrier; 20 Terminals; Body 8.9 x 8.9 mm; ComponentLink1Description: Manufacturer Link; ComponentLink1URL: http://www.ti.com/; ComponentLink2Description: Datasheet; ComponentLink2URL: http://www-s.ti.com/sc/ds/sn74als561a.pdf
footprint FK020 (Leadless Chip Carrier; 20 Terminals; Body 8.9 x 8.9 mm)
signal-integrity model SN54ALS561AFK
pins: 1 ~{ALOAD} (in), 2 CLK (in), 3 A (in), 4 B (in), 5 C (in), 6 D (in), 7 ENP (in), 8 ~{ACLR} (in), 9 ~{SCLR} (in), 10 GND (power), 11 ~{SLOAD} (in), 12 ENT (in), 13 QD (hiz), 14 QC (hiz), 15 QB (hiz), 16 QA (hiz), 17 ~{OE} (in), 18 CCO (out), 19 RCO (out), 20 VCC (power)

## SN54ALS561AJ
designator U?
Synchronous 4-Bit Counter with 3-State Outputs; Published: 8-Jun-2000; LatestRevisionDate: 04-Mar-2005; LatestRevisionNote: Stylized 3D Model Added.; DatasheetVersion: Jan-1995; PackageVersion: Jun-1999; PackageReference: J020; Publisher: Altium Limited; PackageDescription: DIP; 20 Leads; Row Spacing 7.62 mm; Pitch 2.54 mm; ComponentLink1Description: Manufacturer Link; ComponentLink1URL: http://www.ti.com/; ComponentLink2Description: Datasheet; ComponentLink2URL: http://www-s.ti.com/sc/ds/sn74als561a.pdf
footprint J020 (DIP; 20 Leads; Row Spacing 7.62 mm; Pitch 2.54 mm)
3D model J020 (DIP; 20 Leads; Row Spacing 7.62 mm; Pitch 2.54 mm)
signal-integrity model SN54ALS561AJ
pins: 1 ~{ALOAD} (in), 2 CLK (in), 3 A (in), 4 B (in), 5 C (in), 6 D (in), 7 ENP (in), 8 ~{ACLR} (in), 9 ~{SCLR} (in), 10 GND (power), 11 ~{SLOAD} (in), 12 ENT (in), 13 QD (hiz), 14 QC (hiz), 15 QB (hiz), 16 QA (hiz), 17 ~{OE} (in), 18 CCO (out), 19 RCO (out), 20 VCC (power)